# EAGLE library part 10M*C (library crystal)
Monolithic Crystal Filters Source: www.vanlong.com
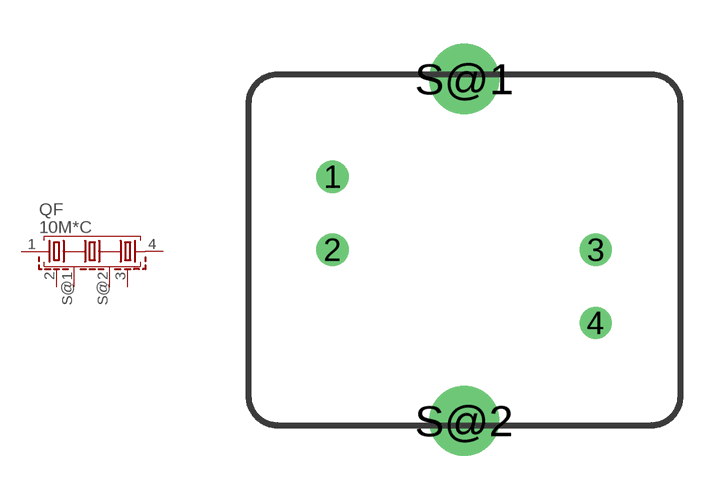
[diagram p7: symbol with the pads of M-3; footprint M-3]

Designator prefix QF

## 10M15C (OC_FARNELL: unknown; OC_NEWARK: unknown), 10M20C (OC_FARNELL: unknown; OC_NEWARK: unknown), 10M25C (OC_FARNELL: unknown; OC_NEWARK: unknown), 10M30C (OC_FARNELL: unknown; OC_NEWARK: unknown), 10M7C (OC_FARNELL: unknown; OC_NEWARK: unknown)  [M-3]
1  1  pas
2  2  pas
3  3  pas
4  4  pas
S@1  S  pas
S@2  S  pas

## Footprint M-3 (pad centres in mm)
Monolithic Crystal Filters Source: www.vanlong.com
drill 0.6 pad 1.016: 1 -4.5,2.5; 2 -4.5,0; 3 4.5,0; 4 4.5,-2.5
drill 1.6 pad 1.93: S@1 0,5.85; S@2 0,-5.85